# EAGLE library part 4VLX25SF363 (library xilinx_spartan3_virtex4_and_5)
Xilinx FPGA
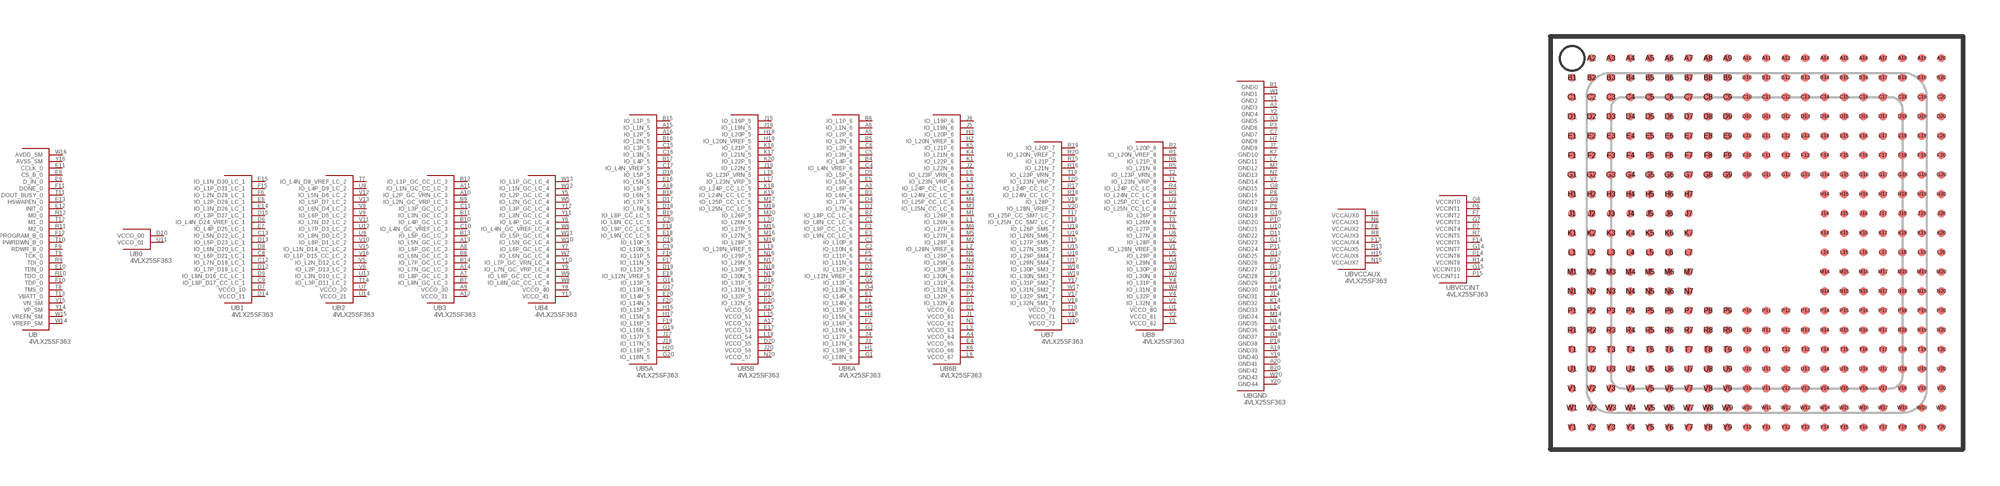
[diagram p75: symbol with the pads of SF363; footprint SF363]

Designator prefix U; gates B=4VLX25SF363_ B0=4VLX25SF363_0 B1=4VLX25SF363_1 B2=4VLX25SF363_2 B3=4VLX25SF363_3 B4=4VLX25SF363_4 B5A=4VLX25SF363_5A B5B=4VLX25SF363_5B B6A=4VLX25SF363_6A B6B=4VLX25SF363_6B B7=4VLX25SF363_7 B8=4VLX25SF363_8 BGND=4VLX25SF363_GND BVCCAUX=4VLX25SF363_VCCAUX BVCCINT=4VLX25SF363_VCCINT

## 4VLX25SF363  [SF363]
A2  BGND:GND3  pas
A3  B6A:IO_L6P_6
A4  B6B:VCCO_64  pas
A5  B6A:IO_L2P_6
A6  B6A:IO_L1N_6
A7  B3:IO_L8P_GC_LC_3
A8  B3:IO_L6P_GC_LC_3
A9  B3:VCCO_30  pas
A10  B3:IO_L2P_GC_VRN_LC_3
A11  B3:IO_L1N_GC_CC_LC_3
A12  B3:VCCO_31  pas
A13  B3:IO_L5N_GC_LC_3
A14  B3:IO_L7N_GC_LC_3
A15  B5A:IO_L1N_5
A16  B5A:IO_L2P_5
A17  B5B:VCCO_52  pas
A18  B5A:IO_L6P_5
A19  BGND:GND39  pas
A20  BGND:GND41  pas
B1  BGND:GND0  pas
B2  B6A:IO_L8P_CC_LC_6
B3  B6A:IO_L6N_6
B4  B6A:IO_L4P_6
B5  B6A:IO_L2N_6
B6  B6A:IO_L1P_6
B7  B3:IO_L8N_GC_LC_3
B8  B3:IO_L6N_GC_LC_3
B9  B3:IO_L2N_GC_VRP_LC_3
B10  B3:IO_L4P_GC_LC_3
B11  B3:IO_L3N_GC_LC_3
B12  B3:IO_L1P_GC_CC_LC_3
B13  B3:IO_L5P_GC_LC_3
B14  B3:IO_L7P_GC_LC_3
B15  B5A:IO_L1P_5
B16  B5A:IO_L2N_5
B17  B5A:IO_L4P_5
B18  B5A:IO_L6N_5
B19  B5A:IO_L8P_CC_LC_5
B20  BGND:GND42  pas
C1  B6A:IO_L8N_CC_LC_6
C2  B6A:IO_L10N_6
C3  B6A:IO_L10P_6
C4  B6A:IO_L4N_VREF_6
C5  B6A:IO_L3N_6
C6  B6A:IO_L3P_6
C7  BGND:GND7  pas
C8  B1:IO_L6P_D21_LC_1
C9  B1:IO_L8P_D17_CC_LC_1
C10  B3:IO_L4N_GC_VREF_LC_3
C11  B3:IO_L3P_GC_LC_3
C12  B1:IO_L7N_D18_LC_1
C13  B1:IO_L5N_D22_LC_1
C14  BGND:GND29  pas
C15  B5A:IO_L3P_5
C16  B5A:IO_L3N_5
C17  B5A:IO_L4N_VREF_5
C18  B5A:IO_L10P_5
C19  B5A:IO_L10N_5
C20  B5A:IO_L8N_CC_LC_5
D1  B6B:VCCO_60  pas
D2  B6A:IO_L12P_6
D3  B6A:IO_L7N_6
D4  B6A:IO_L7P_6
D5  B6A:IO_L5P_6
D6  B1:IO_L4N_D24_VREF_LC_1
D7  B1:VCCO_10  pas
D8  B1:IO_L6N_D20_LC_1
D9  B1:IO_L8N_D16_CC_LC_1
D10  B0:VCCO_00  pas
D11  BGND:GND22  pas
D12  B1:IO_L7P_D19_LC_1
D13  B1:IO_L5P_D23_LC_1
D14  B1:VCCO_11  pas
D15  B1:IO_L3P_D27_LC_1
D16  B5A:IO_L5P_5
D17  B5A:IO_L7P_5
D18  B5A:IO_L7N_5
D19  B5A:IO_L12P_5
D20  B5B:VCCO_55  pas
E1  B6A:IO_L14P_6
E2  B6A:IO_L12N_VREF_6
E3  B6A:IO_L9N_CC_LC_6
E4  B6B:VCCO_65  pas
E5  B6A:IO_L5N_6
E6  B1:IO_L2P_D29_LC_1
E7  B1:IO_L4P_D25_LC_1
E8  B:CS_B_0
E9  B:D_IN_0
E10  B:TDN_0
E11  B:CCLK_0
E12  B:INIT_0
E13  B:HSWAPEN_0
E14  B1:IO_L3N_D26_LC_1
E15  B1:IO_L1N_D30_LC_1
E16  B5A:IO_L5N_5
E17  B5B:VCCO_53  pas
E18  B5A:IO_L9N_CC_LC_5
E19  B5A:IO_L12N_VREF_5
E20  B5A:IO_L14P_5
F1  B6A:IO_L14N_6
F2  B6A:IO_L16P_6
F3  B6A:IO_L9P_CC_LC_6
F4  B6A:IO_L11N_6
F5  B6A:IO_L11P_6
F6  B1:IO_L2N_D28_LC_1
F7  BVCCINT:VCCINT2  pas
F8  BVCCAUX:VCCAUX2  pas
F9  B:RDWR_B_0
F10  B:TDP_0
F11  B:DONE_0
F12  B:PROGRAM_B_0
F13  BVCCAUX:VCCAUX4  pas
F14  BVCCINT:VCCINT6  pas
F15  B1:IO_L1P_D31_LC_1
F16  B5A:IO_L11P_5
F17  B5A:IO_L11N_5
F18  B5A:IO_L9P_CC_LC_5
F19  B5A:IO_L16P_5
F20  B5A:IO_L14N_5
G1  B6A:IO_L18N_6
G2  B6A:IO_L16N_6
G3  BGND:GND5  pas
G4  B6A:IO_L13N_6
G5  B6A:IO_L13P_6
G6  BVCCINT:VCCINT0  pas
G7  BVCCINT:VCCINT3  pas
G8  BGND:GND15  pas
G9  BGND:GND17  pas
G10  BGND:GND19  pas
G11  BGND:GND23  pas
G12  BGND:GND25  pas
G13  BGND:GND27  pas
G14  BVCCINT:VCCINT7  pas
G15  BVCCINT:VCCINT10  pas
G16  B5A:IO_L13P_5
G17  B5A:IO_L13N_5
G18  BGND:GND37  pas
G19  B5A:IO_L16N_5
G20  B5A:IO_L18N_5
H1  B6A:IO_L18P_6
H2  B6B:IO_L20N_VREF_6
H3  B6B:IO_L20P_6
H4  B6A:IO_L15N_6
H5  B6A:IO_L15P_6
H6  BVCCAUX:VCCAUX0  pas
H7  BGND:GND8  pas
H14  BGND:GND30  pas
H15  BVCCAUX:VCCAUX6  pas
H16  B5A:IO_L15P_5
H17  B5A:IO_L15N_5
H18  B5B:IO_L20P_5
H19  B5B:IO_L20N_VREF_5
H20  B5A:IO_L18P_5
J1  B6B:VCCO_61  pas
J2  B6B:IO_L22N_6
J3  B6A:IO_L17N_6
J4  B6A:IO_L17P_6
J5  B6B:IO_L19N_6
J6  B6B:IO_L19P_6
J7  BGND:GND9  pas
J14  BGND:GND31  pas
J15  B5B:IO_L19P_5
J16  B5B:IO_L19N_5
J17  B5A:IO_L17P_5
J18  B5A:IO_L17N_5
J19  B5B:IO_L22N_5
J20  B5B:VCCO_56  pas
K1  B6B:IO_L22P_6
K2  B6B:IO_L24N_CC_LC_6
K3  B6B:IO_L24P_CC_LC_6
K4  B6B:IO_L21N_6
K5  B6B:IO_L21P_6
K6  B6B:VCCO_66  pas
K7  BGND:GND10  pas
K14  BGND:GND32  pas
K15  B5B:VCCO_50  pas
K16  B5B:IO_L21P_5
K17  B5B:IO_L21N_5
K18  B5B:IO_L24P_CC_LC_5
K19  B5B:IO_L24N_CC_LC_5
K20  B5B:IO_L22P_5
L1  B6B:IO_L26N_6
L2  B6B:IO_L28N_VREF_6
L3  B6B:VCCO_63  pas
L4  B6B:IO_L23N_VRP_6
L5  B6B:IO_L23P_VRN_6
L6  B6B:VCCO_67  pas
L7  BGND:GND11  pas
L14  BGND:GND33  pas
L15  B5B:VCCO_51  pas
L16  B5B:IO_L23P_VRN_5
L17  B5B:IO_L23N_VRP_5
L18  B5B:VCCO_54  pas
L19  B5B:IO_L28N_VREF_5
L20  B5B:IO_L26N_5
M1  B6B:IO_L26P_6
M2  B6B:IO_L28P_6
M3  B6B:IO_L25N_CC_LC_6
M4  B6B:IO_L25P_CC_LC_6
M5  B6B:IO_L27N_6
M6  B6B:IO_L27P_6
M7  BGND:GND12  pas
M14  BGND:GND34  pas
M15  B5B:IO_L27P_5
M16  B5B:IO_L27N_5
M17  B5B:IO_L25P_CC_LC_5
M18  B5B:IO_L25N_CC_LC_5
M19  B5B:IO_L28P_5
M20  B5B:IO_L26P_5
N1  B6B:VCCO_62  pas
N2  B6B:IO_L30N_6
N3  B6B:IO_L30P_6
N4  B6B:IO_L29N_6
N5  B6B:IO_L29P_6
N6  BVCCAUX:VCCAUX1  pas
N7  BGND:GND13  pas
N14  BGND:GND35  pas
N15  BVCCAUX:VCCAUX7  pas
N16  B5B:IO_L29P_5
N17  B5B:IO_L29N_5
N18  B5B:IO_L30P_5
N19  B5B:IO_L30N_5
N20  B5B:VCCO_57  pas
P1  B6B:IO_L32N_6
P2  B6B:IO_L32P_6
P3  BGND:GND6  pas
P4  B6B:IO_L31N_6
P5  B6B:IO_L31P_6
P6  BVCCINT:VCCINT1  pas
P7  BVCCINT:VCCINT4  pas
P8  BGND:GND16  pas
P9  BGND:GND18  pas
P10  BGND:GND20  pas
P11  BGND:GND24  pas
P12  BGND:GND26  pas
P13  BGND:GND28  pas
P14  BVCCINT:VCCINT8  pas
P15  BVCCINT:VCCINT11  pas
P16  B5B:IO_L31P_5
P17  B5B:IO_L31N_5
P18  BGND:GND38  pas
P19  B5B:IO_L32P_5
P20  B5B:IO_L32N_5
R1  B8:IO_L20N_VREF_8
R2  B8:IO_L20P_8
R3  B8:IO_L24N_CC_LC_8
R4  B8:IO_L24P_CC_LC_8
R5  B8:IO_L21N_8
R6  B8:IO_L21P_8
R7  BVCCINT:VCCINT5  pas
R8  BVCCAUX:VCCAUX3  pas
R9  B:TDI_0
R10  B:TDO_0
R11  B:M2_0
R12  B:M0_0
R13  BVCCAUX:VCCAUX5  pas
R14  BVCCINT:VCCINT9  pas
R15  B7:IO_L21P_7
R16  B7:IO_L21N_7
R17  B7:IO_L24P_CC_LC_7
R18  B7:IO_L24N_CC_LC_7
R19  B7:IO_L20P_7
R20  B7:IO_L20N_VREF_7
T1  B8:IO_L23N_VRP_8
T2  B8:IO_L23P_VRN_8
T3  B8:IO_L26N_8
T4  B8:IO_L26P_8
T5  B8:VCCO_82  pas
T6  B8:IO_L27P_8
T7  B2:IO_L4N_D8_VREF_LC_2
T8  B:TMS_0
T9  B:TCK_0
T10  B:PWRDWN_B_0
T11  B:DOUT_BUSY_0
T12  B:M1_0
T13  B:VBATT_0
T14  B2:IO_L3P_D11_LC_2
T15  B7:IO_L27P_SM5_7
T16  B7:VCCO_70  pas
T17  B7:IO_L25P_CC_SM7_LC_7
T18  B7:IO_L25N_CC_SM7_LC_7
T19  B7:IO_L23P_VRN_7
T20  B7:IO_L23N_VRP_7
U1  B8:VCCO_80  pas
U2  B8:IO_L25N_CC_LC_8
U3  B8:IO_L25P_CC_LC_8
U4  B8:IO_L29N_8
U5  B8:IO_L29P_8
U6  B8:IO_L27N_8
U7  B2:VCCO_20  pas
U8  B2:IO_L4P_D9_LC_2
U9  B2:IO_L8N_D0_LC_2
U10  BGND:GND21  pas
U11  B0:VCCO_01  pas
U12  B2:IO_L7P_D3_LC_2
U13  B2:IO_L3N_D10_LC_2
U14  B2:VCCO_21  pas
U15  B7:IO_L27N_SM5_7
U16  B7:IO_L29P_SM4_7
U17  B7:IO_L29N_SM4_7
U18  B7:IO_L26P_SM6_7
U19  B7:IO_L26N_SM6_7
U20  B7:VCCO_72  pas
V1  B8:IO_L28N_VREF_8
V2  B8:IO_L28P_8
V3  B8:IO_L32N_8
V4  B8:IO_L32P_8
V5  B2:IO_L2N_D12_LC_2
V6  B2:IO_L2P_D13_LC_2
V7  BGND:GND14  pas
V8  B2:IO_L6N_D4_LC_2
V9  B2:IO_L6P_D5_LC_2
V10  B2:IO_L8P_D1_LC_2
V11  B2:IO_L7N_D2_LC_2
V12  B2:IO_L5N_D6_LC_2
V13  B2:IO_L5P_D7_LC_2
V14  BGND:GND36  pas
V15  B2:IO_L1N_D14_CC_LC_2
V16  B2:IO_L1P_D15_CC_LC_2
V17  B7:IO_L32P_SM1_7
V18  B7:IO_L32N_SM1_7
V19  B7:IO_L28P_7
V20  B7:IO_L28N_VREF_7
W1  BGND:GND1  pas
W2  B8:IO_L30N_8
W3  B8:IO_L30P_8
W4  B8:IO_L31N_8
W5  B4:IO_L2N_GC_LC_4
W6  B4:IO_L4N_GC_VREF_LC_4
W7  B4:IO_L6N_GC_LC_4
W8  B4:IO_L8N_GC_CC_LC_4
W9  B4:IO_L8P_GC_CC_LC_4
W10  B4:IO_L5N_GC_LC_4
W11  B4:IO_L5P_GC_LC_4
W12  B4:IO_L1N_GC_LC_4
W13  B4:IO_L1P_GC_LC_4
W14  B:VREFP_SM
W15  B:VREFN_SM
W16  B:AVDD_SM
W17  B7:IO_L31N_SM2_7
W18  B7:IO_L30P_SM3_7
W19  B7:IO_L30N_SM3_7
W20  BGND:GND43  pas
Y1  BGND:GND2  pas
Y2  BGND:GND4  pas
Y3  B8:VCCO_81  pas
Y4  B8:IO_L31P_8
Y5  B4:IO_L2P_GC_LC_4
Y6  B4:IO_L4P_GC_LC_4
Y7  B4:IO_L6P_GC_LC_4
Y8  B4:VCCO_40  pas
Y9  B4:IO_L7N_GC_VRP_LC_4
Y10  B4:IO_L7P_GC_VRN_LC_4
Y11  B4:IO_L3N_GC_LC_4
Y12  B4:IO_L3P_GC_LC_4
Y13  B4:VCCO_41  pas
Y14  B:VP_SM
Y15  B:VN_SM
Y16  B:AVSS_SM
Y17  B7:IO_L31P_SM2_7
Y18  B7:VCCO_71  pas
Y19  BGND:GND40  pas
Y20  BGND:GND44  pas

## Footprint SF363 (pad centres in mm)
smd 0.33 x 0.33: A2 -6.8,7.6; A3 -6,7.6; A4 -5.2,7.6; A5 -4.4,7.6; A6 -3.6,7.6; A7 -2.8,7.6; A8 -2,7.6; A9 -1.2,7.6; A10 -0.4,7.6; A11 0.4,7.6; A12 1.2,7.6; A13 2,7.6; A14 2.8,7.6; A15 3.6,7.6; A16 4.4,7.6; A17 5.2,7.6; A18 6,7.6; A19 6.8,7.6; A20 7.6,7.6; B1 -7.6,6.8; B2 -6.8,6.8; B3 -6,6.8; B4 -5.2,6.8; B5 -4.4,6.8; B6 -3.6,6.8; B7 -2.8,6.8; B8 -2,6.8; B9 -1.2,6.8; B10 -0.4,6.8; B11 0.4,6.8; B12 1.2,6.8; B13 2,6.8; B14 2.8,6.8; B15 3.6,6.8; B16 4.4,6.8; B17 5.2,6.8; B18 6,6.8; B19 6.8,6.8; B20 7.6,6.8; C1 -7.6,6; C2 -6.8,6; C3 -6,6; C4 -5.2,6; C5 -4.4,6; C6 -3.6,6; C7 -2.8,6; C8 -2,6; C9 -1.2,6; C10 -0.4,6; C11 0.4,6; C12 1.2,6; C13 2,6; C14 2.8,6; C15 3.6,6; C16 4.4,6; C17 5.2,6; C18 6,6; C19 6.8,6; C20 7.6,6; D1 -7.6,5.2; D2 -6.8,5.2; D3 -6,5.2; D4 -5.2,5.2; D5 -4.4,5.2; D6 -3.6,5.2; D7 -2.8,5.2; D8 -2,5.2; D9 -1.2,5.2; D10 -0.4,5.2; D11 0.4,5.2; D12 1.2,5.2; D13 2,5.2; D14 2.8,5.2; D15 3.6,5.2; D16 4.4,5.2; D17 5.2,5.2; D18 6,5.2; D19 6.8,5.2; D20 7.6,5.2; E1 -7.6,4.4; E2 -6.8,4.4; E3 -6,4.4; E4 -5.2,4.4; E5 -4.4,4.4; E6 -3.6,4.4; E7 -2.8,4.4; E8 -2,4.4; E9 -1.2,4.4; E10 -0.4,4.4; E11 0.4,4.4; E12 1.2,4.4; E13 2,4.4; E14 2.8,4.4; E15 3.6,4.4; E16 4.4,4.4; E17 5.2,4.4; E18 6,4.4; E19 6.8,4.4; E20 7.6,4.4; F1 -7.6,3.6; F2 -6.8,3.6; F3 -6,3.6; F4 -5.2,3.6; F5 -4.4,3.6; F6 -3.6,3.6; F7 -2.8,3.6; F8 -2,3.6; F9 -1.2,3.6; F10 -0.4,3.6; F11 0.4,3.6; F12 1.2,3.6; F13 2,3.6; F14 2.8,3.6; F15 3.6,3.6; F16 4.4,3.6; F17 5.2,3.6; F18 6,3.6; F19 6.8,3.6; F20 7.6,3.6; G1 -7.6,2.8; G2 -6.8,2.8; G3 -6,2.8; G4 -5.2,2.8; G5 -4.4,2.8; G6 -3.6,2.8; G7 -2.8,2.8; G8 -2,2.8; G9 -1.2,2.8; G10 -0.4,2.8; G11 0.4,2.8; G12 1.2,2.8; G13 2,2.8; G14 2.8,2.8; G15 3.6,2.8; G16 4.4,2.8; G17 5.2,2.8; G18 6,2.8; G19 6.8,2.8; G20 7.6,2.8; H1 -7.6,2; H2 -6.8,2; H3 -6,2; H4 -5.2,2; H5 -4.4,2; H6 -3.6,2; H7 -2.8,2; H14 2.8,2; H15 3.6,2; H16 4.4,2; H17 5.2,2; H18 6,2; H19 6.8,2; H20 7.6,2; J1 -7.6,1.2; J2 -6.8,1.2; J3 -6,1.2; J4 -5.2,1.2; J5 -4.4,1.2; J6 -3.6,1.2; J7 -2.8,1.2; J14 2.8,1.2; J15 3.6,1.2; J16 4.4,1.2; J17 5.2,1.2; J18 6,1.2; J19 6.8,1.2; J20 7.6,1.2; K1 -7.6,0.4; K2 -6.8,0.4; K3 -6,0.4; K4 -5.2,0.4; K5 -4.4,0.4; K6 -3.6,0.4; K7 -2.8,0.4; K14 2.8,0.4; K15 3.6,0.4; K16 4.4,0.4; K17 5.2,0.4; K18 6,0.4; K19 6.8,0.4; K20 7.6,0.4; L1 -7.6,-0.4; L2 -6.8,-0.4; L3 -6,-0.4; L4 -5.2,-0.4; L5 -4.4,-0.4; L6 -3.6,-0.4; L7 -2.8,-0.4; L14 2.8,-0.4; L15 3.6,-0.4; L16 4.4,-0.4; L17 5.2,-0.4; L18 6,-0.4; L19 6.8,-0.4; L20 7.6,-0.4; M1 -7.6,-1.2; M2 -6.8,-1.2; M3 -6,-1.2; M4 -5.2,-1.2; M5 -4.4,-1.2; M6 -3.6,-1.2; M7 -2.8,-1.2; M14 2.8,-1.2; M15 3.6,-1.2; M16 4.4,-1.2; M17 5.2,-1.2; M18 6,-1.2; M19 6.8,-1.2; M20 7.6,-1.2; N1 -7.6,-2; N2 -6.8,-2; N3 -6,-2; N4 -5.2,-2; N5 -4.4,-2; N6 -3.6,-2; N7 -2.8,-2; N14 2.8,-2; N15 3.6,-2; N16 4.4,-2; N17 5.2,-2; N18 6,-2; N19 6.8,-2; N20 7.6,-2; P1 -7.6,-2.8; P2 -6.8,-2.8; P3 -6,-2.8; P4 -5.2,-2.8; P5 -4.4,-2.8; P6 -3.6,-2.8; P7 -2.8,-2.8; P8 -2,-2.8; P9 -1.2,-2.8; P10 -0.4,-2.8; P11 0.4,-2.8; P12 1.2,-2.8; P13 2,-2.8; P14 2.8,-2.8; P15 3.6,-2.8; P16 4.4,-2.8; P17 5.2,-2.8; P18 6,-2.8; P19 6.8,-2.8; P20 7.6,-2.8; R1 -7.6,-3.6; R2 -6.8,-3.6; R3 -6,-3.6; R4 -5.2,-3.6; R5 -4.4,-3.6; R6 -3.6,-3.6; R7 -2.8,-3.6; R8 -2,-3.6; R9 -1.2,-3.6; R10 -0.4,-3.6; R11 0.4,-3.6; R12 1.2,-3.6; R13 2,-3.6; R14 2.8,-3.6; R15 3.6,-3.6; R16 4.4,-3.6; R17 5.2,-3.6; R18 6,-3.6; R19 6.8,-3.6; R20 7.6,-3.6; T1 -7.6,-4.4; T2 -6.8,-4.4; T3 -6,-4.4; T4 -5.2,-4.4; T5 -4.4,-4.4; T6 -3.6,-4.4; T7 -2.8,-4.4; T8 -2,-4.4; T9 -1.2,-4.4; T10 -0.4,-4.4; T11 0.4,-4.4; T12 1.2,-4.4; T13 2,-4.4; T14 2.8,-4.4; T15 3.6,-4.4; T16 4.4,-4.4; T17 5.2,-4.4; T18 6,-4.4; T19 6.8,-4.4; T20 7.6,-4.4; U1 -7.6,-5.2; U2 -6.8,-5.2; U3 -6,-5.2; U4 -5.2,-5.2; U5 -4.4,-5.2; U6 -3.6,-5.2; U7 -2.8,-5.2; U8 -2,-5.2; U9 -1.2,-5.2; U10 -0.4,-5.2; U11 0.4,-5.2; U12 1.2,-5.2; U13 2,-5.2; U14 2.8,-5.2; U15 3.6,-5.2; U16 4.4,-5.2; U17 5.2,-5.2; U18 6,-5.2; U19 6.8,-5.2; U20 7.6,-5.2; V1 -7.6,-6; V2 -6.8,-6; V3 -6,-6; V4 -5.2,-6; V5 -4.4,-6; V6 -3.6,-6; V7 -2.8,-6; V8 -2,-6; V9 -1.2,-6; V10 -0.4,-6; V11 0.4,-6; V12 1.2,-6; V13 2,-6; V14 2.8,-6; V15 3.6,-6; V16 4.4,-6; V17 5.2,-6; V18 6,-6; V19 6.8,-6; V20 7.6,-6; W1 -7.6,-6.8; W2 -6.8,-6.8; W3 -6,-6.8; W4 -5.2,-6.8; W5 -4.4,-6.8; W6 -3.6,-6.8; W7 -2.8,-6.8; W8 -2,-6.8; W9 -1.2,-6.8; W10 -0.4,-6.8; W11 0.4,-6.8; W12 1.2,-6.8; W13 2,-6.8; W14 2.8,-6.8; W15 3.6,-6.8; W16 4.4,-6.8; W17 5.2,-6.8; W18 6,-6.8; W19 6.8,-6.8; W20 7.6,-6.8; Y1 -7.6,-7.6; Y2 -6.8,-7.6; Y3 -6,-7.6; Y4 -5.2,-7.6; Y5 -4.4,-7.6; Y6 -3.6,-7.6; Y7 -2.8,-7.6; Y8 -2,-7.6; Y9 -1.2,-7.6; Y10 -0.4,-7.6; Y11 0.4,-7.6; Y12 1.2,-7.6; Y13 2,-7.6; Y14 2.8,-7.6; Y15 3.6,-7.6; Y16 4.4,-7.6; Y17 5.2,-7.6; Y18 6,-7.6; Y19 6.8,-7.6; Y20 7.6,-7.6